# Altium schematic symbol library MiscSch1.SchLib: 10 symbols
Pins are listed as number, name and electrical type; pins without a type are passive.

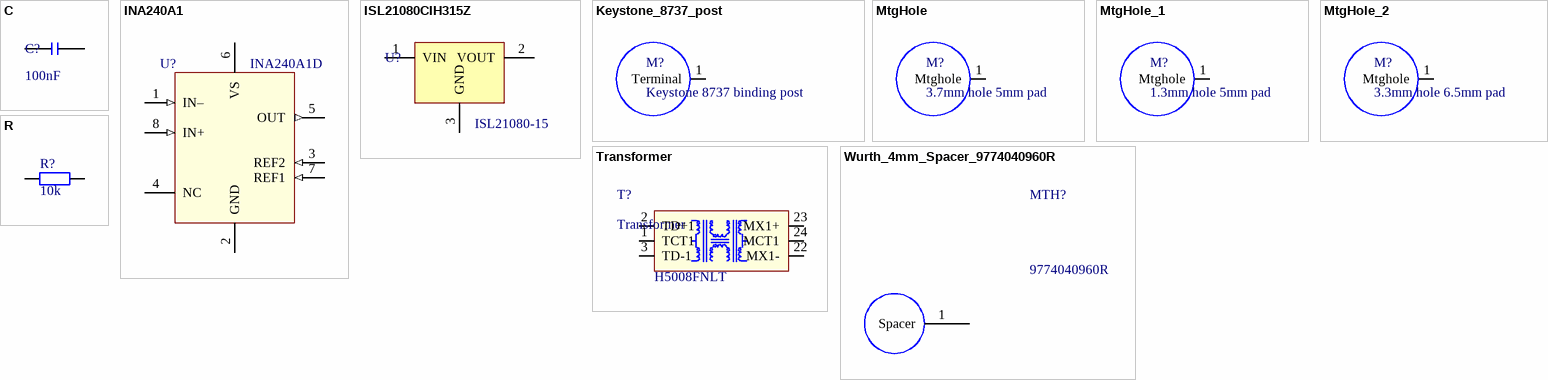
[diagram p0: symbols C to Wurth_4mm_Spacer_9774040960R]

## C
designator C?, comment 100nF
Generic Capacitor; Tolerance: 20%; Temperature Coefficient: X7R; Voltage Rating: 25V; Capacitance: 100nF; Size Code: 0603
footprint CAP 0603_1608 (Chip Capacitor, 2-Leads, Body 1.60x0.80mm, IPC Medium Density)
footprint CAP 0603_1608 RF (Chip Capacitor, 2-Leads, Body 1.60x0.80mm, IPC High Density)
footprint CAP 0805_2012 (Chip Capacitor, 2-Leads, Body 2.00x1.20mm, IPC Medium Density)
footprint CAP 0805_2012 RF (Chip Capacitor, 2-Leads, Body 2.00x1.20mm, IPC High Density)
footprint CAP 1206_3216 (Chip Capacitor, 2-Leads, Body 3.25x1.60mm, IPC Medium Density)
pins: 1, 2

## INA240A1
designator U?, comment INA240A1D
Current Sense Amplifiers -4 to 80V, bidirectional, ultra-precise current sense amplifier with enhanced PWM rejection, 20V/V gain; Manufacturer: Texas Instruments; Manufacturer Part Number: INA240A1D; Supplier 1: Digi-Key; Supplier 2: Mouser; Supplier 3: Farnell; Supplier Part Number 1: 296-51172-1-ND; Supplier Part Number 2: 595-INA240A1D; Supplier Part Number 3: 3005359
footprint TI SOIC-8 D0008A (Package SOIC-8, 8-Leades, 4.90 x 3.89 mm Body , Pitch 1.27 mm)
pins: 1 IN– (in), 2 GND (power), 3 REF2 (in), 4 NC, 5 OUT (out), 6 VS (power), 7 REF1 (in), 8 IN+ (in)

## ISL21080CIH315Z
designator U?, comment Colloquial: ISL21080-15  (hidden comment: ISL21080CIH315Z-TK)
ISL21080 Series 1.5 V 0.5% 300nA NanoPower Voltage Reference - SOT-23-3; Manufacturer: Renesas; Supplier 1: RSComponents; Manufacturer Part Number: ISL21080CIH315Z-TK; RoHS: Yes; Category: Voltage References; Stock 1: 950; Pricing 1: 1000=0.89400 (GBP); RoHS Compliant: Yes; Supplier Part Number 1: 1972525
footprint Renesas SOT23-3 P3.064A (SOT23, 3-Leads, Body 2.92x2.37mm, Pitch 0.95mm, IPC Medium Density)
pins: 1 VIN (power), 2 VOUT (power), 3 GND (power)

## Keystone_8737_post
designator M?, comment Keystone 8737 binding post  (no BOM)
1.5mm hole 5.6mm pad
footprint Keystone_8737
pins: 1 Terminal

## MtgHole
designator M?, comment 3.7mm hole 5mm pad  (no BOM)
footprint 3.7hole5pad (3.7mm hole with 5mm pad)
pins: 1 Mtghole

## MtgHole_1
designator M?, comment 1.3mm hole 5mm pad  (no BOM)
footprint 1.3hole5pad (1.3mm hole with 5mm pad)
footprint 1.7hole5padRD (1.7mm hole with 5mm round pad)
footprint 1.7hole5padSQ (1.7mm hole with 5mm square pad)
pins: 1 Mtghole

## MtgHole_2
designator M?, comment 3.3mm hole 6.5mm pad  (no BOM)
footprint 3.3HOLE6.5PAD (3.7mm hole with 6.5mm pad)
pins: 1 Mtghole

## R
designator R?, comment 10k
Generic Resistor; Tolerance: 1%; Voltage Rating: 75V; Power Rating: 100mW; Temperature Coefficient: 100ppm/°C; Size Code: 0603; Resistance: 10k
footprint RES 0603_1608 (Chip Resistor, 2-Leads, Body 1.60x0.80mm, IPC Medium Density)
footprint RES 0603_1608 RF (Chip Resistor, 2-Leads, Body 1.60x0.80mm, IPC High Density)
footprint RES 0805_2012 (Chip Resistor, 2-Leads, Body 2.00x1.25mm, IPC Medium Density)
footprint RES 0805_2012 RF (Chip Resistor, 2-Leads, Body 2.00x1.25mm, IPC High Density)
footprint RES 1206_3216 (Chip Resistor, 2-Leads, Body 3.13x1.55mm, IPC Medium Density)
footprint RES 1206_3216 RF (Chip Resistor, 2-Leads, Body 3.13x1.55mm, IPC High Density)
footprint RES 2512_6432 (Chip Resistor, 2-Leads, Body 6.30x3.15mm, IPC Medium Density)
pins: 1, 2

## Transformer
designator T?  MFG P/N: H5008FNLT
pins: 1 TCT1, 2 TD+1, 3 TD-1, 22 MX1-, 23 MX1+, 24 MCT1

## Wurth_4mm_Spacer_9774040960R
designator MTH?, comment 9774040960R
Spacer Material: Steel Mounting: SMT Series: WA-SMST For ø: 3.3 mm; Manufacturer: Wurth Electronics; Plating: Tin; Threaded/Unthreaded: Unthreaded; Inside Diameter: 0.13inch; Outside Diameter: 0.236inch; Supplier 1: Digi-Key; Manufacturer Part Number: 9774040960R; RoHS: Yes; Category: Spacers, Standoffs; Stock 1: 190; Pricing 1: 1=1.79000, 10=1.71600, 50=1.50700, 100=1.40200 (USD); Material: Steel; Length: 0.213inch; REACH SVHC: Unknown; ComponentLink1URL: http://www.farnell.com/datasheets/1960394.pdf?src-supplier=Farnell; ComponentLink1Description: http://www.farnell.com/datasheets/1960394.pdf?src-supplier=Farnell; ComponentLink2URL: http://www.mouser.com/ds/2/445/9774040960R-611108.pdf?src-supplier=Mouser; ComponentLink2Description: http://www.mouser.com/ds/2/445/9774040960R-611108.pdf?src-supplier=Mouser; ComponentLink3URL: https://media.digikey.com/pdf/Data%20Sheets/Wurth%20Electronics%20PDFs/WA-SMSx_Performance_Flyer.pdf?src-supplier=Digi-Key; ComponentLink3Description: https://media.digikey.com/pdf/Data%20Sheets/Wurth%20Electronics%20PDFs/WA-SMSx_Performance_Flyer.pdf?src-supplier=Digi-Key; ComponentLink4URL: http://www.farnell.com/datasheets/1960394.pdf?src-supplier=Element14; ComponentLink4Description: http://www.farnell.com/datasheets/1960394.pdf?src-supplier=Element14; ComponentLink5URL: http://www.farnell.com/datasheets/1960394.pdf?src-supplier=Newark; ComponentLink5Description: http://www.farnell.com/datasheets/1960394.pdf?src-supplier=Newark; Supplier Part Number 1: 732-7092-1-ND
footprint 9774040960R
pins: 1 Spacer